# EAGLE library part 691311700008 (library Wuerth_Elektronik_eiCan_Terminal_Blocks_v2.0)
WR-TBL Serie 3117 - 5.0mm Open Vertical PCB Header , 8 Pins
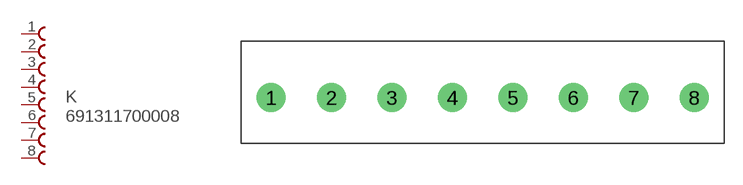
[diagram p63: symbol with the pads of 691311700008; footprint 691311700008]

Designator prefix K

## 691311700008  [691311700008]
1  1  pas
2  2  pas
3  3  pas
4  4  pas
5  5  pas
6  6  pas
7  7  pas
8  8  pas

## Footprint 691311700008 (pad centres in mm)
WR-TBL Serie 3117 - 5.0mm Open Vertical PCB Header , 8 Pins
drill 1.6 round: 1 -5,0; 2 0,0; 3 5,0; 4 10,0; 5 15,0; 6 20,0; 7 25,0; 8 30,0